# EAGLE library part 050_610_?-20/40 (library con-sullinselectronics)
.050 DIP EDGE CARD CONNECTOR .050 [1.27mm] CONTACT CENTERS .610" INSULATEOR HEIGHT Source: .050 DIP EDGE CARD.pdf
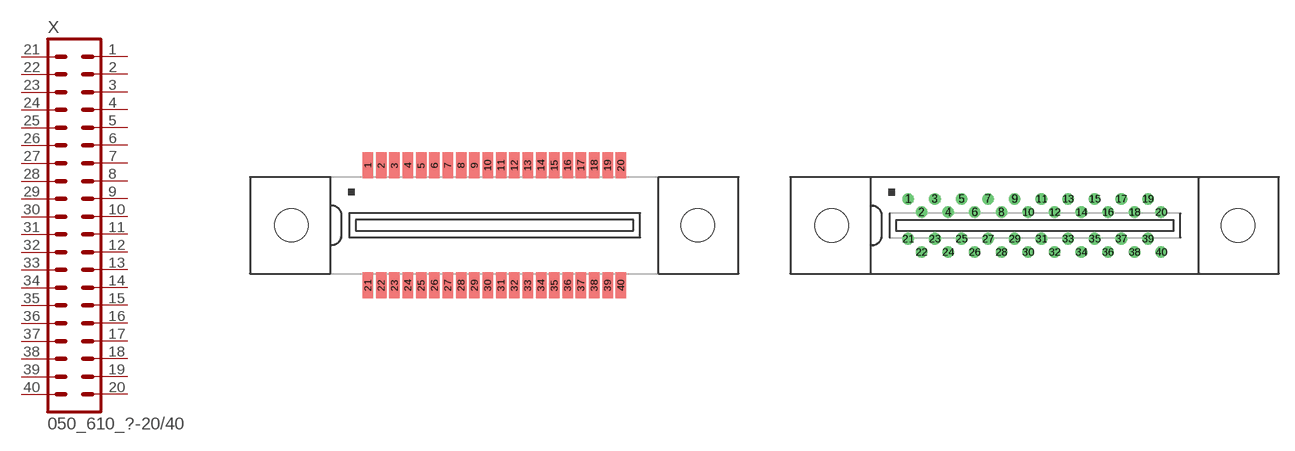
[diagram p10: symbol with the pads of 050_610_HF-20/40; footprints 050_610_HF-20/40, 050_610_HH-20/40]

Designator prefix X

## 050_610_HF-20/40  [050_610_HF-20/40]
1  1  pas
2  2  pas
3  3  pas
4  4  pas
5  5  pas
6  6  pas
7  7  pas
8  8  pas
9  9  pas
10  10  pas
11  11  pas
12  12  pas
13  13  pas
14  14  pas
15  15  pas
16  16  pas
17  17  pas
18  18  pas
19  19  pas
20  20  pas
21  21  pas
22  22  pas
23  23  pas
24  24  pas
25  25  pas
26  26  pas
27  27  pas
28  28  pas
29  29  pas
30  30  pas
31  31  pas
32  32  pas
33  33  pas
34  34  pas
35  35  pas
36  36  pas
37  37  pas
38  38  pas
39  39  pas
40  40  pas

## 050_610_HH-20/40  [050_610_HH-20/40]
Pads as for 050_610_HF-20/40

## Footprint 050_610_HF-20/40 (pad centres in mm)
.050 DIP EDGE CARD CONNECTOR SURFACE MOUNT .050 [1.27mm] CONTACT CENTERS .610" INSULATEOR HEIGHT Source: .050 DIP EDGE CARD.pdf
smd 1 x 2.5: 1 -12.065,5.715; 2 -10.795,5.715; 3 -9.525,5.715; 4 -8.255,5.715; 5 -6.985,5.715; 6 -5.715,5.715; 7 -4.445,5.715; 8 -3.175,5.715; 9 -1.905,5.715; 10 -0.635,5.715; 11 0.635,5.715; 12 1.905,5.715; 13 3.175,5.715; 14 4.445,5.715; 15 5.715,5.715; 16 6.985,5.715; 17 8.255,5.715; 18 9.525,5.715; 19 10.795,5.715; 20 12.065,5.715; 21 -12.065,-5.715; 22 -10.795,-5.715; 23 -9.525,-5.715; 24 -8.255,-5.715; 25 -6.985,-5.715; 26 -5.715,-5.715; 27 -4.445,-5.715; 28 -3.175,-5.715; 29 -1.905,-5.715; 30 -0.635,-5.715; 31 0.635,-5.715; 32 1.905,-5.715; 33 3.175,-5.715; 34 4.445,-5.715; 35 5.715,-5.715; 36 6.985,-5.715; 37 8.255,-5.715; 38 9.525,-5.715; 39 10.795,-5.715; 40 12.065,-5.715
hole 3.18 at -19.38,0
hole 3.18 at 19.38,0

## Footprint 050_610_HH-20/40 (pad centres in mm)
.050 DIP EDGE CARD CONNECTOR STAGGERED DIP SOLDER .050 [1.27mm] CONTACT CENTERS .610" INSULATEOR HEIGHT Source: .050 DIP EDGE CARD.pdf
drill 0.6 pad 1 round: 1 -12.065,2.54; 2 -10.795,1.27; 3 -9.525,2.54; 4 -8.255,1.27; 5 -6.985,2.54; 6 -5.715,1.27; 7 -4.445,2.54; 8 -3.175,1.27; 9 -1.905,2.54; 10 -0.635,1.27; 11 0.635,2.54; 12 1.905,1.27; 13 3.175,2.54; 14 4.445,1.27; 15 5.715,2.54; 16 6.985,1.27; 17 8.255,2.54; 18 9.525,1.27; 19 10.795,2.54; 20 12.065,1.27; 21 -12.065,-1.27; 22 -10.795,-2.54; 23 -9.525,-1.27; 24 -8.255,-2.54; 25 -6.985,-1.27; 26 -5.715,-2.54; 27 -4.445,-1.27; 28 -3.175,-2.54; 29 -1.905,-1.27; 30 -0.635,-2.54; 31 0.635,-1.27; 32 1.905,-2.54; 33 3.175,-1.27; 34 4.445,-2.54; 35 5.715,-1.27; 36 6.985,-2.54; 37 8.255,-1.27; 38 9.525,-2.54; 39 10.795,-1.27; 40 12.065,-2.54
hole 3.18 at -19.38,0
hole 3.18 at 19.38,0